# Altium footprint library PCB - LEADLESS - LQFP - ST LQFP-144 20X20MM.PCBLIB: 1 footprints
Each footprint in its own frame and in the unit in brackets; x right, y up, seen from the top. Pads: shape width x height; smd on the part's side, far side on the other; paste and mask are expansions set on the pad; w line width, h text height; cw(c..) or ccw(c..) is an arc to the next point about the centre after c.
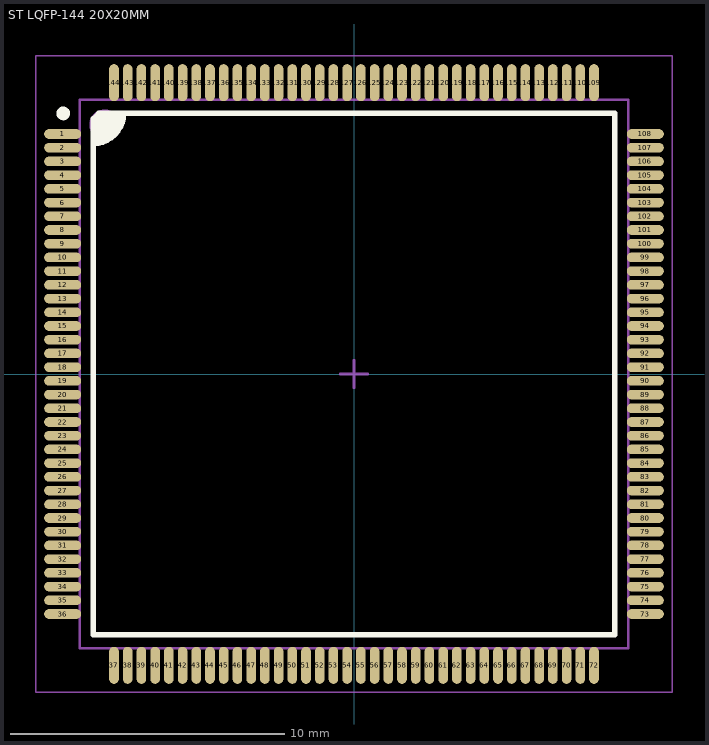
[diagram p0: the footprint, top view; thin cyan lines are the x and y axes]

## ST LQFP-144 20X20MM [mm] "LQFP, 144-Leads, Body 20.00x20.00mm, Pitch 0.50mm, IPC Medium Density"
height 1.6
pads (144):
  oval 1.35x0.35 smd: 1(-10.62,8.75) 2(-10.62,8.25) 3(-10.62,7.75) 4(-10.62,7.25) 5(-10.62,6.75) 6(-10.62,6.25) 7(-10.62,5.75) 8(-10.62,5.25) 9(-10.62,4.75) 10(-10.62,4.25) 11(-10.62,3.75) 12(-10.62,3.25) 13(-10.62,2.75) 14(-10.62,2.25) 15(-10.62,1.75) 16(-10.62,1.25) 17(-10.62,0.75) 18(-10.62,0.25) 19(-10.62,-0.25) 20(-10.62,-0.75) 21(-10.62,-1.25) 22(-10.62,-1.75) 23(-10.62,-2.25) 24(-10.62,-2.75) 25(-10.62,-3.25) 26(-10.62,-3.75) 27(-10.62,-4.25) 28(-10.62,-4.75) 29(-10.62,-5.25) 30(-10.62,-5.75) 31(-10.62,-6.25) 32(-10.62,-6.75) 33(-10.62,-7.25) 34(-10.62,-7.75) 35(-10.62,-8.25) 36(-10.62,-8.75) 73(10.62,-8.75) 74(10.62,-8.25) 75(10.62,-7.75) 76(10.62,-7.25) 77(10.62,-6.75) 78(10.62,-6.25) 79(10.62,-5.75) 80(10.62,-5.25) 81(10.62,-4.75) 82(10.62,-4.25) 83(10.62,-3.75) 84(10.62,-3.25) 85(10.62,-2.75) 86(10.62,-2.25) 87(10.62,-1.75) 88(10.62,-1.25) 89(10.62,-0.75) 90(10.62,-0.25) 91(10.62,0.25) 92(10.62,0.75) 93(10.62,1.25) 94(10.62,1.75) 95(10.62,2.25) 96(10.62,2.75) 97(10.62,3.25) 98(10.62,3.75) 99(10.62,4.25) 100(10.62,4.75) 101(10.62,5.25) 102(10.62,5.75) 103(10.62,6.25) 104(10.62,6.75) 105(10.62,7.25) 106(10.62,7.75) 107(10.62,8.25) 108(10.62,8.75)
  oval 0.35x1.35 smd: 37(-8.75,-10.62) 38(-8.25,-10.62) 39(-7.75,-10.62) 40(-7.25,-10.62) 41(-6.75,-10.62) 42(-6.25,-10.62) 43(-5.75,-10.62) 44(-5.25,-10.62) 45(-4.75,-10.62) 46(-4.25,-10.62) 47(-3.75,-10.62) 48(-3.25,-10.62) 49(-2.75,-10.62) 50(-2.25,-10.62) 51(-1.75,-10.62) 52(-1.25,-10.62) 53(-0.75,-10.62) 54(-0.25,-10.62) 55(0.25,-10.62) 56(0.75,-10.62) 57(1.25,-10.62) 58(1.75,-10.62) 59(2.25,-10.62) 60(2.75,-10.62) 61(3.25,-10.62) 62(3.75,-10.62) 63(4.25,-10.62) 64(4.75,-10.62) 65(5.25,-10.62) 66(5.75,-10.62) 67(6.25,-10.62) 68(6.75,-10.62) 69(7.25,-10.62) 70(7.75,-10.62) 71(8.25,-10.62) 72(8.75,-10.62) 109(8.75,10.62) 110(8.25,10.62) 111(7.75,10.62) 112(7.25,10.62) 113(6.75,10.62) 114(6.25,10.62) 115(5.75,10.62) 116(5.25,10.62) 117(4.75,10.62) 118(4.25,10.62) 119(3.75,10.62) 120(3.25,10.62) 121(2.75,10.62) 122(2.25,10.62) 123(1.75,10.62) 124(1.25,10.62) 125(0.75,10.62) 126(0.25,10.62) 127(-0.25,10.62) 128(-0.75,10.62) 129(-1.25,10.62) 130(-1.75,10.62) 131(-2.25,10.62) 132(-2.75,10.62) 133(-3.25,10.62) 134(-3.75,10.62) 135(-4.25,10.62) 136(-4.75,10.62) 137(-5.25,10.62) 138(-5.75,10.62) 139(-6.25,10.62) 140(-6.75,10.62) 141(-7.25,10.62) 142(-7.75,10.62) 143(-8.25,10.62) 144(-8.75,10.62)
Top Overlay:
  circle w0.25: c-10.6,9.5 r0.125
  region: -8.4,9.445 -9.278,9.499 -9.465,9.302 -9.477,8.4 -9.1,8.4 -8.4,9.1
  lines w0.2: -9.5,8.4 ccw(c-9.5,9.5) -8.4,9.5 ; -9.5,-9.5 9.5,-9.5 9.5,9.5 -9.3,9.5 -9.5,9.3 -9.5,-9.5
Mechanical 13:
  circle w0.1: c-9.1,9.1 r0.5
  lines w0.1: -10,-10 10,-10 10,10 -10,10 -10,-10
Mechanical 15:
  lines w0.05: -11.6,-11.6 11.6,-11.6 11.6,11.6 -11.6,11.6 -11.6,-11.6
  lines w0.1: -0.5,0 0.5,0 ; 0,-0.5 0,0.5
3D body "ST LQFP-144-20x20mm.STEP": height 1.63, standoff 0, extent -11.013,-11.013 11.013,11.013